# Altium schematic symbol library SCH - DIODES - DIODE_2P.SCHLIB: 1 symbol
Pins are listed as number, name and electrical type; pins without a type are passive.

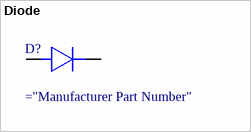
[diagram p0: symbol Diode]

## Diode
designator D?
pins: 1 K, 2 A